# Altium footprint library Mounting_Wuerth.PcbLib: 191 footprints (part 3 of 12)
Each footprint in its own frame and in the unit in brackets; x right, y up, seen from the top. Pads: shape width x height; smd on the part's side, far side on the other; paste and mask are expansions set on the pad; w line width, h text height; cw(c..) or ccw(c..) is an arc to the next point about the centre after c.
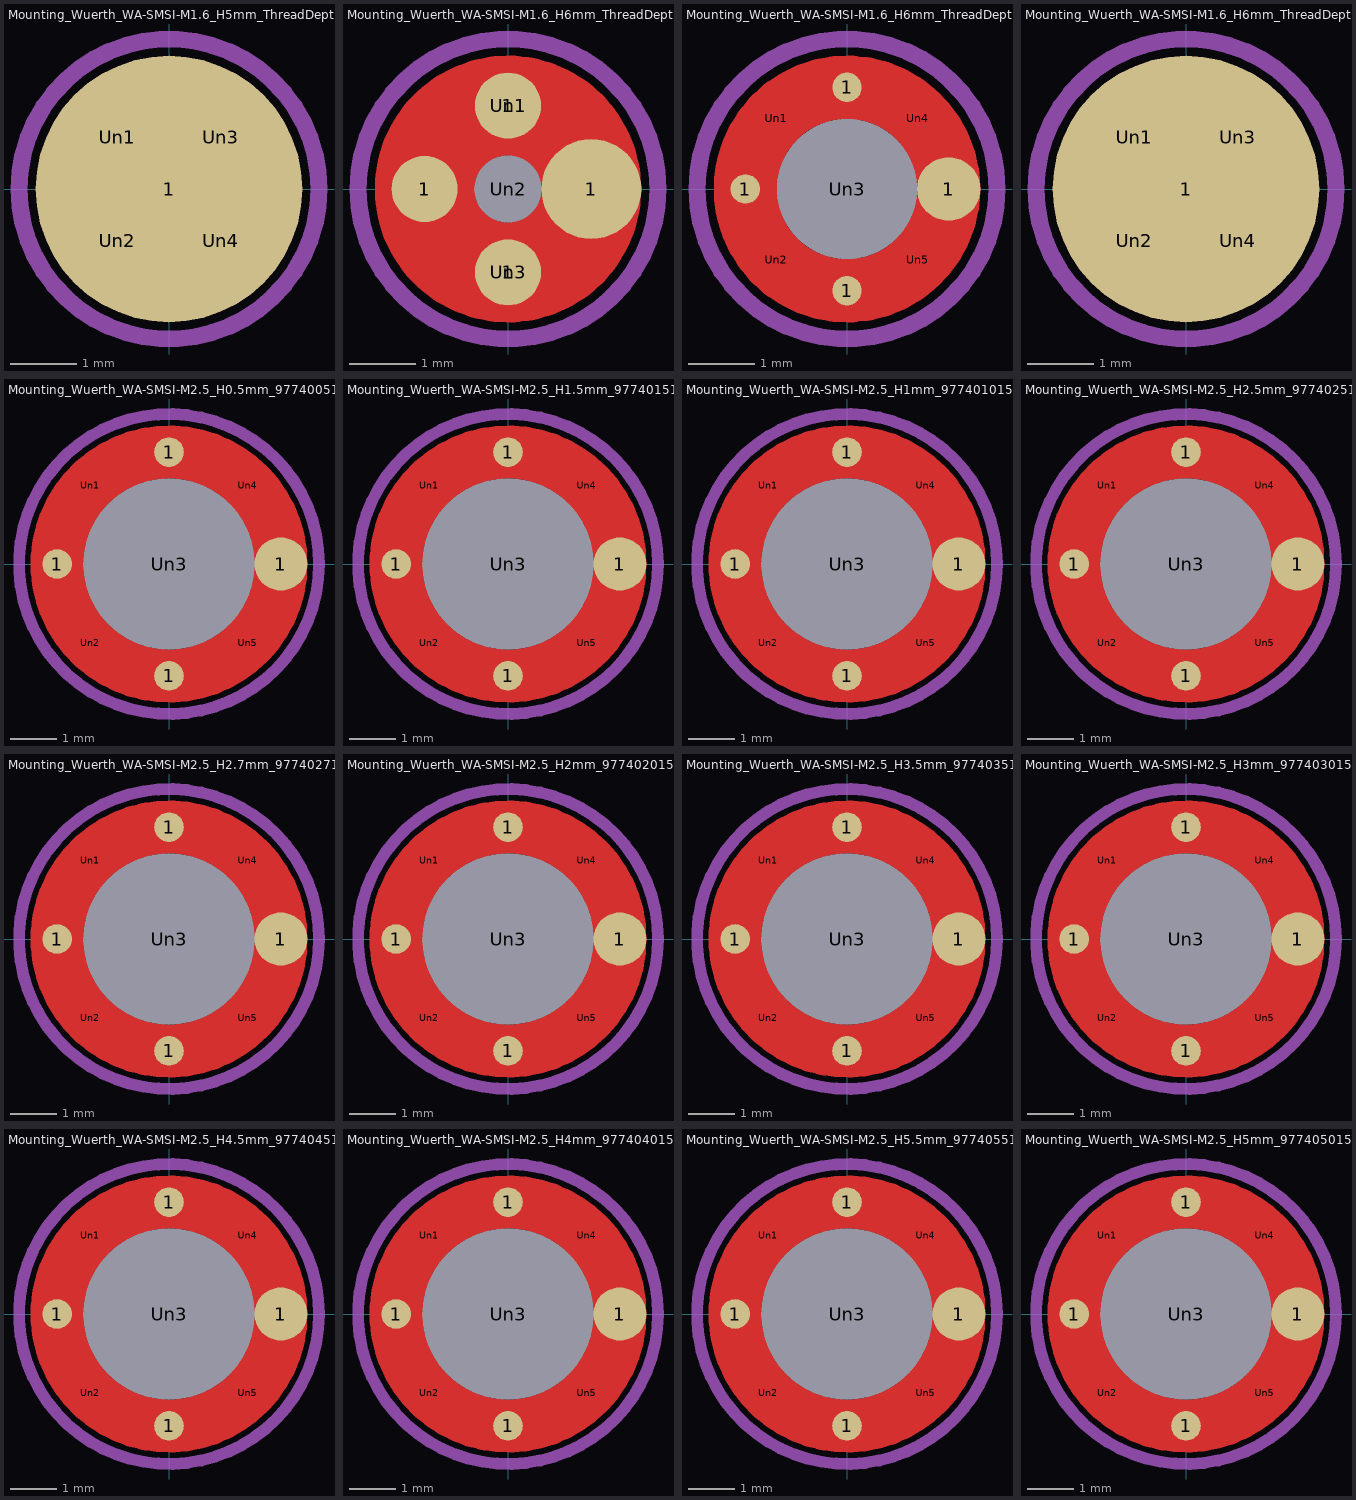
[diagram p2: the footprints below, top view; thin cyan lines are the x and y axes]

## Mounting_Wuerth_WA-SMSI-M1.6_H5mm_ThreadDepth2mm_NoNPTH_97730506330 [mm]
pads (5):
  round 4 smd: 1(0,0)
  round 0.8 on Top Paste: Un1(-0.778,0.778) Un2(-0.778,-0.778) Un3(0.778,0.778) Un4(0.778,-0.778)
F.Paste:
  lines w0.2: -1.783,-0.25 -0.312,-0.25 ; -1.783,0.25 -0.312,0.25 ; -0.25,-1.783 -0.25,-0.312 ; -0.25,0.312 -0.25,1.783 ; 0.25,-1.783 0.25,-0.312 ; 0.25,0.312 0.25,1.783 ; 0.312,-0.25 1.783,-0.25 ; 0.312,0.25 1.783,0.25
Top Assembly:
  circle w0.254: c0,0 r1.65
  text "'.Designator'" at -3.315,-0.686 h0.82
Top Courtyard:
  circle w0.254: c0,0 r2.25
Top Designator:
  text ".Designator" at -7.738,-0.508 h1.52
3D body "Mounting_Wuerth_WA-SMSI-M1.6_H5mm_ThreadDepth2mm_NoNPTH_97730506330.step": height 5, standoff 0, extent -1.65,-1.647 1.65,1.647

## Mounting_Wuerth_WA-SMSI-M1.6_H6mm_ThreadDepth2mm_97730606332 [mm]
pads (7):
  round 0.992 smd: 1(-1.25,0) 1(0,-1.25) 1(0,1.25)
  round 1.5 smd: 1(1.25,0)
  round 0.65 on Top Paste: Un1(0,1.25) Un3(0,-1.25)
  round 1 hole 1: Un2(0,0)
F.Cu:
  circle w1.5: c0,0 r1.25
F.Paste:
  lines w0.2: -1.8,0 -0.7,0 ; -1.679,0.65 -0.26,0.65 ; 0.26,-0.65 1.679,-0.65 ; 0.7,0 1.8,0
F.Mask:
  circle w1.5: c0,0 r1.25
Top Assembly:
  circle w0.254: c0,0 r1.65
  text "'.Designator'" at -3.315,-0.686 h0.82
Top Courtyard:
  circle w0.254: c0,0 r2.25
Top Designator:
  text ".Designator" at -7.738,-0.508 h1.52
3D body "Mounting_Wuerth_WA-SMSI-M1.6_H6mm_ThreadDepth2mm_97730606332.step": height 6, standoff -0.5, extent -1.65,-1.647 1.65,1.647

## Mounting_Wuerth_WA-SMSI-M1.6_H6mm_ThreadDepth2mm_97730606334 [mm]
pads (9):
  round 0.442 smd: 1(-1.525,0) 1(0,-1.525) 1(0,1.525)
  round 0.95 smd: 1(1.525,0)
  round 0.4 on Top Paste: Un1(-1.061,1.061) Un2(-1.061,-1.061) Un4(1.061,1.061) Un5(1.061,-1.061)
  round 2.1 hole 2.1: Un3(0,0)
F.Cu:
  circle w0.95: c0,0 r1.525
F.Paste:
  lines w0.2: -1.775,-0.3 -1.162,-0.3 ; -1.775,0.3 -1.162,0.3 ; -0.3,-1.775 -0.3,-1.162 ; -0.3,1.162 -0.3,1.775 ; 0.3,-1.775 0.3,-1.162 ; 0.3,1.162 0.3,1.775 ; 1.162,-0.3 1.775,-0.3 ; 1.162,0.3 1.775,0.3
F.Mask:
  circle w0.95: c0,0 r1.525
Top Assembly:
  circle w0.254: c0,0 r1.65
  text "'.Designator'" at -3.315,-0.686 h0.82
Top Courtyard:
  circle w0.254: c0,0 r2.25
Top Designator:
  text ".Designator" at -7.738,-0.508 h1.52
3D body "Mounting_Wuerth_WA-SMSI-M1.6_H6mm_ThreadDepth2mm_97730606334.step": height 6, standoff -0.7, extent -1.65,-1.647 1.65,1.647

## Mounting_Wuerth_WA-SMSI-M1.6_H6mm_ThreadDepth2mm_NoNPTH_97730606330 [mm]
pads (5):
  round 4 smd: 1(0,0)
  round 0.8 on Top Paste: Un1(-0.778,0.778) Un2(-0.778,-0.778) Un3(0.778,0.778) Un4(0.778,-0.778)
F.Paste:
  lines w0.2: -1.783,-0.25 -0.312,-0.25 ; -1.783,0.25 -0.312,0.25 ; -0.25,-1.783 -0.25,-0.312 ; -0.25,0.312 -0.25,1.783 ; 0.25,-1.783 0.25,-0.312 ; 0.25,0.312 0.25,1.783 ; 0.312,-0.25 1.783,-0.25 ; 0.312,0.25 1.783,0.25
Top Assembly:
  circle w0.254: c0,0 r1.65
  text "'.Designator'" at -3.315,-0.686 h0.82
Top Courtyard:
  circle w0.254: c0,0 r2.25
Top Designator:
  text ".Designator" at -7.738,-0.508 h1.52
3D body "Mounting_Wuerth_WA-SMSI-M1.6_H6mm_ThreadDepth2mm_NoNPTH_97730606330.step": height 6, standoff 0, extent -1.65,-1.647 1.65,1.647

## Mounting_Wuerth_WA-SMSI-M2.5_H0.5mm_9774005151 [mm]
pads (9):
  round 0.642 smd: 1(-2.425,0) 1(0,-2.425) 1(0,2.425)
  round 1.15 smd: 1(2.425,0)
  round 0.51 on Top Paste: Un1(-1.704,1.704) Un2(-1.704,-1.704) Un4(1.704,1.704) Un5(1.704,-1.704)
  round 3.7 hole 3.7: Un3(0,0)
F.Cu:
  circle w1.15: c0,0 r2.425
F.Paste:
  lines w0.2: -2.788,-0.425 -1.954,-0.425 ; -2.788,0.425 -1.954,0.425 ; -0.425,-2.788 -0.425,-1.954 ; -0.425,1.954 -0.425,2.788 ; 0.425,-2.788 0.425,-1.954 ; 0.425,1.954 0.425,2.788 ; 1.954,-0.425 2.788,-0.425 ; 1.954,0.425 2.788,0.425
F.Mask:
  circle w1.15: c0,0 r2.425
Top Assembly:
  circle w0.254: c0,0 r2.55
  text "'.Designator'" at -4.047,-0.84 h1
Top Courtyard:
  circle w0.254: c0,0 r3.25
Top Designator:
  text ".Designator" at -7.768,-0.508 h1.52

## Mounting_Wuerth_WA-SMSI-M2.5_H1.5mm_9774015151 [mm]
pads (9):
  round 0.642 smd: 1(-2.425,0) 1(0,-2.425) 1(0,2.425)
  round 1.15 smd: 1(2.425,0)
  round 0.51 on Top Paste: Un1(-1.704,1.704) Un2(-1.704,-1.704) Un4(1.704,1.704) Un5(1.704,-1.704)
  round 3.7 hole 3.7: Un3(0,0)
F.Cu:
  circle w1.15: c0,0 r2.425
F.Paste:
  lines w0.2: -2.788,-0.425 -1.954,-0.425 ; -2.788,0.425 -1.954,0.425 ; -0.425,-2.788 -0.425,-1.954 ; -0.425,1.954 -0.425,2.788 ; 0.425,-2.788 0.425,-1.954 ; 0.425,1.954 0.425,2.788 ; 1.954,-0.425 2.788,-0.425 ; 1.954,0.425 2.788,0.425
F.Mask:
  circle w1.15: c0,0 r2.425
Top Assembly:
  circle w0.254: c0,0 r2.55
  text "'.Designator'" at -4.047,-0.84 h1
Top Courtyard:
  circle w0.254: c0,0 r3.25
Top Designator:
  text ".Designator" at -7.768,-0.508 h1.52

## Mounting_Wuerth_WA-SMSI-M2.5_H1mm_9774010151 [mm]
pads (9):
  round 0.642 smd: 1(-2.425,0) 1(0,-2.425) 1(0,2.425)
  round 1.15 smd: 1(2.425,0)
  round 0.51 on Top Paste: Un1(-1.704,1.704) Un2(-1.704,-1.704) Un4(1.704,1.704) Un5(1.704,-1.704)
  round 3.7 hole 3.7: Un3(0,0)
F.Cu:
  circle w1.15: c0,0 r2.425
F.Paste:
  lines w0.2: -2.788,-0.425 -1.954,-0.425 ; -2.788,0.425 -1.954,0.425 ; -0.425,-2.788 -0.425,-1.954 ; -0.425,1.954 -0.425,2.788 ; 0.425,-2.788 0.425,-1.954 ; 0.425,1.954 0.425,2.788 ; 1.954,-0.425 2.788,-0.425 ; 1.954,0.425 2.788,0.425
F.Mask:
  circle w1.15: c0,0 r2.425
Top Assembly:
  circle w0.254: c0,0 r2.55
  text "'.Designator'" at -4.047,-0.84 h1
Top Courtyard:
  circle w0.254: c0,0 r3.25
Top Designator:
  text ".Designator" at -7.768,-0.508 h1.52

## Mounting_Wuerth_WA-SMSI-M2.5_H2.5mm_9774025151 [mm]
pads (9):
  round 0.642 smd: 1(-2.425,0) 1(0,-2.425) 1(0,2.425)
  round 1.15 smd: 1(2.425,0)
  round 0.51 on Top Paste: Un1(-1.704,1.704) Un2(-1.704,-1.704) Un4(1.704,1.704) Un5(1.704,-1.704)
  round 3.7 hole 3.7: Un3(0,0)
F.Cu:
  circle w1.15: c0,0 r2.425
F.Paste:
  lines w0.2: -2.788,-0.425 -1.954,-0.425 ; -2.788,0.425 -1.954,0.425 ; -0.425,-2.788 -0.425,-1.954 ; -0.425,1.954 -0.425,2.788 ; 0.425,-2.788 0.425,-1.954 ; 0.425,1.954 0.425,2.788 ; 1.954,-0.425 2.788,-0.425 ; 1.954,0.425 2.788,0.425
F.Mask:
  circle w1.15: c0,0 r2.425
Top Assembly:
  circle w0.254: c0,0 r2.55
  text "'.Designator'" at -4.047,-0.84 h1
Top Courtyard:
  circle w0.254: c0,0 r3.25
Top Designator:
  text ".Designator" at -7.768,-0.508 h1.52

## Mounting_Wuerth_WA-SMSI-M2.5_H2.7mm_9774027151 [mm]
pads (9):
  round 0.642 smd: 1(-2.425,0) 1(0,-2.425) 1(0,2.425)
  round 1.15 smd: 1(2.425,0)
  round 0.51 on Top Paste: Un1(-1.704,1.704) Un2(-1.704,-1.704) Un4(1.704,1.704) Un5(1.704,-1.704)
  round 3.7 hole 3.7: Un3(0,0)
F.Cu:
  circle w1.15: c0,0 r2.425
F.Paste:
  lines w0.2: -2.788,-0.425 -1.954,-0.425 ; -2.788,0.425 -1.954,0.425 ; -0.425,-2.788 -0.425,-1.954 ; -0.425,1.954 -0.425,2.788 ; 0.425,-2.788 0.425,-1.954 ; 0.425,1.954 0.425,2.788 ; 1.954,-0.425 2.788,-0.425 ; 1.954,0.425 2.788,0.425
F.Mask:
  circle w1.15: c0,0 r2.425
Top Assembly:
  circle w0.254: c0,0 r2.55
  text "'.Designator'" at -4.047,-0.84 h1
Top Courtyard:
  circle w0.254: c0,0 r3.25
Top Designator:
  text ".Designator" at -7.768,-0.508 h1.52

## Mounting_Wuerth_WA-SMSI-M2.5_H2mm_9774020151 [mm]
pads (9):
  round 0.642 smd: 1(-2.425,0) 1(0,-2.425) 1(0,2.425)
  round 1.15 smd: 1(2.425,0)
  round 0.51 on Top Paste: Un1(-1.704,1.704) Un2(-1.704,-1.704) Un4(1.704,1.704) Un5(1.704,-1.704)
  round 3.7 hole 3.7: Un3(0,0)
F.Cu:
  circle w1.15: c0,0 r2.425
F.Paste:
  lines w0.2: -2.788,-0.425 -1.954,-0.425 ; -2.788,0.425 -1.954,0.425 ; -0.425,-2.788 -0.425,-1.954 ; -0.425,1.954 -0.425,2.788 ; 0.425,-2.788 0.425,-1.954 ; 0.425,1.954 0.425,2.788 ; 1.954,-0.425 2.788,-0.425 ; 1.954,0.425 2.788,0.425
F.Mask:
  circle w1.15: c0,0 r2.425
Top Assembly:
  circle w0.254: c0,0 r2.55
  text "'.Designator'" at -4.047,-0.84 h1
Top Courtyard:
  circle w0.254: c0,0 r3.25
Top Designator:
  text ".Designator" at -7.768,-0.508 h1.52

## Mounting_Wuerth_WA-SMSI-M2.5_H3.5mm_9774035151 [mm]
pads (9):
  round 0.642 smd: 1(-2.425,0) 1(0,-2.425) 1(0,2.425)
  round 1.15 smd: 1(2.425,0)
  round 0.51 on Top Paste: Un1(-1.704,1.704) Un2(-1.704,-1.704) Un4(1.704,1.704) Un5(1.704,-1.704)
  round 3.7 hole 3.7: Un3(0,0)
F.Cu:
  circle w1.15: c0,0 r2.425
F.Paste:
  lines w0.2: -2.788,-0.425 -1.954,-0.425 ; -2.788,0.425 -1.954,0.425 ; -0.425,-2.788 -0.425,-1.954 ; -0.425,1.954 -0.425,2.788 ; 0.425,-2.788 0.425,-1.954 ; 0.425,1.954 0.425,2.788 ; 1.954,-0.425 2.788,-0.425 ; 1.954,0.425 2.788,0.425
F.Mask:
  circle w1.15: c0,0 r2.425
Top Assembly:
  circle w0.254: c0,0 r2.55
  text "'.Designator'" at -4.047,-0.84 h1
Top Courtyard:
  circle w0.254: c0,0 r3.25
Top Designator:
  text ".Designator" at -7.768,-0.508 h1.52

## Mounting_Wuerth_WA-SMSI-M2.5_H3mm_9774030151 [mm]
pads (9):
  round 0.642 smd: 1(-2.425,0) 1(0,-2.425) 1(0,2.425)
  round 1.15 smd: 1(2.425,0)
  round 0.51 on Top Paste: Un1(-1.704,1.704) Un2(-1.704,-1.704) Un4(1.704,1.704) Un5(1.704,-1.704)
  round 3.7 hole 3.7: Un3(0,0)
F.Cu:
  circle w1.15: c0,0 r2.425
F.Paste:
  lines w0.2: -2.788,-0.425 -1.954,-0.425 ; -2.788,0.425 -1.954,0.425 ; -0.425,-2.788 -0.425,-1.954 ; -0.425,1.954 -0.425,2.788 ; 0.425,-2.788 0.425,-1.954 ; 0.425,1.954 0.425,2.788 ; 1.954,-0.425 2.788,-0.425 ; 1.954,0.425 2.788,0.425
F.Mask:
  circle w1.15: c0,0 r2.425
Top Assembly:
  circle w0.254: c0,0 r2.55
  text "'.Designator'" at -4.047,-0.84 h1
Top Courtyard:
  circle w0.254: c0,0 r3.25
Top Designator:
  text ".Designator" at -7.768,-0.508 h1.52

## Mounting_Wuerth_WA-SMSI-M2.5_H4.5mm_9774045151 [mm]
pads (9):
  round 0.642 smd: 1(-2.425,0) 1(0,-2.425) 1(0,2.425)
  round 1.15 smd: 1(2.425,0)
  round 0.51 on Top Paste: Un1(-1.704,1.704) Un2(-1.704,-1.704) Un4(1.704,1.704) Un5(1.704,-1.704)
  round 3.7 hole 3.7: Un3(0,0)
F.Cu:
  circle w1.15: c0,0 r2.425
F.Paste:
  lines w0.2: -2.788,-0.425 -1.954,-0.425 ; -2.788,0.425 -1.954,0.425 ; -0.425,-2.788 -0.425,-1.954 ; -0.425,1.954 -0.425,2.788 ; 0.425,-2.788 0.425,-1.954 ; 0.425,1.954 0.425,2.788 ; 1.954,-0.425 2.788,-0.425 ; 1.954,0.425 2.788,0.425
F.Mask:
  circle w1.15: c0,0 r2.425
Top Assembly:
  circle w0.254: c0,0 r2.55
  text "'.Designator'" at -4.047,-0.84 h1
Top Courtyard:
  circle w0.254: c0,0 r3.25
Top Designator:
  text ".Designator" at -7.768,-0.508 h1.52

## Mounting_Wuerth_WA-SMSI-M2.5_H4mm_9774040151 [mm]
pads (9):
  round 0.642 smd: 1(-2.425,0) 1(0,-2.425) 1(0,2.425)
  round 1.15 smd: 1(2.425,0)
  round 0.51 on Top Paste: Un1(-1.704,1.704) Un2(-1.704,-1.704) Un4(1.704,1.704) Un5(1.704,-1.704)
  round 3.7 hole 3.7: Un3(0,0)
F.Cu:
  circle w1.15: c0,0 r2.425
F.Paste:
  lines w0.2: -2.788,-0.425 -1.954,-0.425 ; -2.788,0.425 -1.954,0.425 ; -0.425,-2.788 -0.425,-1.954 ; -0.425,1.954 -0.425,2.788 ; 0.425,-2.788 0.425,-1.954 ; 0.425,1.954 0.425,2.788 ; 1.954,-0.425 2.788,-0.425 ; 1.954,0.425 2.788,0.425
F.Mask:
  circle w1.15: c0,0 r2.425
Top Assembly:
  circle w0.254: c0,0 r2.55
  text "'.Designator'" at -4.047,-0.84 h1
Top Courtyard:
  circle w0.254: c0,0 r3.25
Top Designator:
  text ".Designator" at -7.768,-0.508 h1.52

## Mounting_Wuerth_WA-SMSI-M2.5_H5.5mm_9774055151 [mm]
pads (9):
  round 0.642 smd: 1(-2.425,0) 1(0,-2.425) 1(0,2.425)
  round 1.15 smd: 1(2.425,0)
  round 0.51 on Top Paste: Un1(-1.704,1.704) Un2(-1.704,-1.704) Un4(1.704,1.704) Un5(1.704,-1.704)
  round 3.7 hole 3.7: Un3(0,0)
F.Cu:
  circle w1.15: c0,0 r2.425
F.Paste:
  lines w0.2: -2.788,-0.425 -1.954,-0.425 ; -2.788,0.425 -1.954,0.425 ; -0.425,-2.788 -0.425,-1.954 ; -0.425,1.954 -0.425,2.788 ; 0.425,-2.788 0.425,-1.954 ; 0.425,1.954 0.425,2.788 ; 1.954,-0.425 2.788,-0.425 ; 1.954,0.425 2.788,0.425
F.Mask:
  circle w1.15: c0,0 r2.425
Top Assembly:
  circle w0.254: c0,0 r2.55
  text "'.Designator'" at -4.047,-0.84 h1
Top Courtyard:
  circle w0.254: c0,0 r3.25
Top Designator:
  text ".Designator" at -7.768,-0.508 h1.52

## Mounting_Wuerth_WA-SMSI-M2.5_H5mm_9774050151 [mm]
pads (9):
  round 0.642 smd: 1(-2.425,0) 1(0,-2.425) 1(0,2.425)
  round 1.15 smd: 1(2.425,0)
  round 0.51 on Top Paste: Un1(-1.704,1.704) Un2(-1.704,-1.704) Un4(1.704,1.704) Un5(1.704,-1.704)
  round 3.7 hole 3.7: Un3(0,0)
F.Cu:
  circle w1.15: c0,0 r2.425
F.Paste:
  lines w0.2: -2.788,-0.425 -1.954,-0.425 ; -2.788,0.425 -1.954,0.425 ; -0.425,-2.788 -0.425,-1.954 ; -0.425,1.954 -0.425,2.788 ; 0.425,-2.788 0.425,-1.954 ; 0.425,1.954 0.425,2.788 ; 1.954,-0.425 2.788,-0.425 ; 1.954,0.425 2.788,0.425
F.Mask:
  circle w1.15: c0,0 r2.425
Top Assembly:
  circle w0.254: c0,0 r2.55
  text "'.Designator'" at -4.047,-0.84 h1
Top Courtyard:
  circle w0.254: c0,0 r3.25
Top Designator:
  text ".Designator" at -7.768,-0.508 h1.52